# EAGLE library part FPC06 (library we-con)
FPC/ZIF Connector
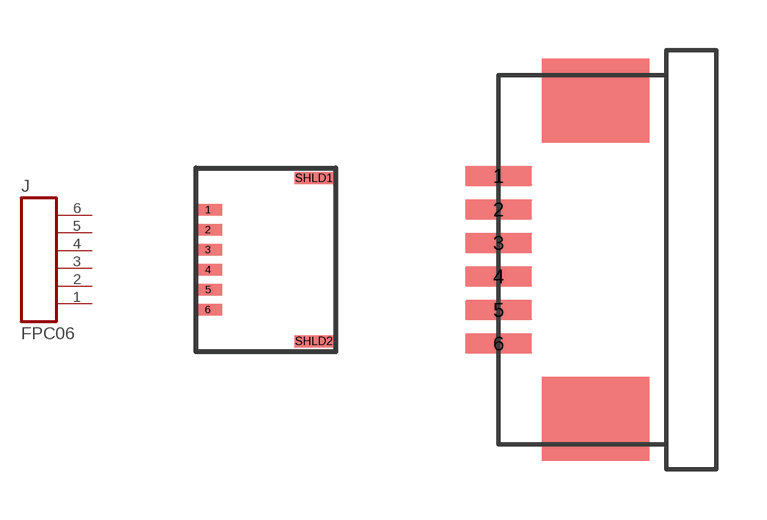
[diagram p30: symbol with the pads of FPC06-0.5; footprints FPC06-0.5, FPC06-1.0]

Designator prefix J

## FPC06-5034800600 (DIGIKEY: WM1387DKR-ND)  [FPC06-0.5]
1  1  pas
2  2  pas
3  3  pas
4  4  pas
5  5  pas
6  6  pas

## FPC06  [FPC06-1.0]
Pads as for FPC06-0.5

## Footprint FPC06-0.5 (pad centres in mm)
6 Pins 0.5mm Molex 5034800600 -> top+bottom contact
smd 0.75 x 0.28: 1 0,1.25; 2 0,0.75; 3 0,0.25; 4 0,-0.25; 5 0,-0.75; 6 0,-1.25
smd 1 x 0.3: SHLD1 2.65,2.04; SHLD2 2.65,-2.04

## Footprint FPC06-1.0 (pad centres in mm)
6 Pins 1mm
smd 2 x 0.6: 1 0,2.5; 2 0,1.5; 3 0,0.5; 4 0,-0.5; 5 0,-1.5; 6 0,-2.5